# Altium schematic symbol library Diodes.SchLib: 21 symbols
Pins are listed as number, name and electrical type; pins without a type are passive.

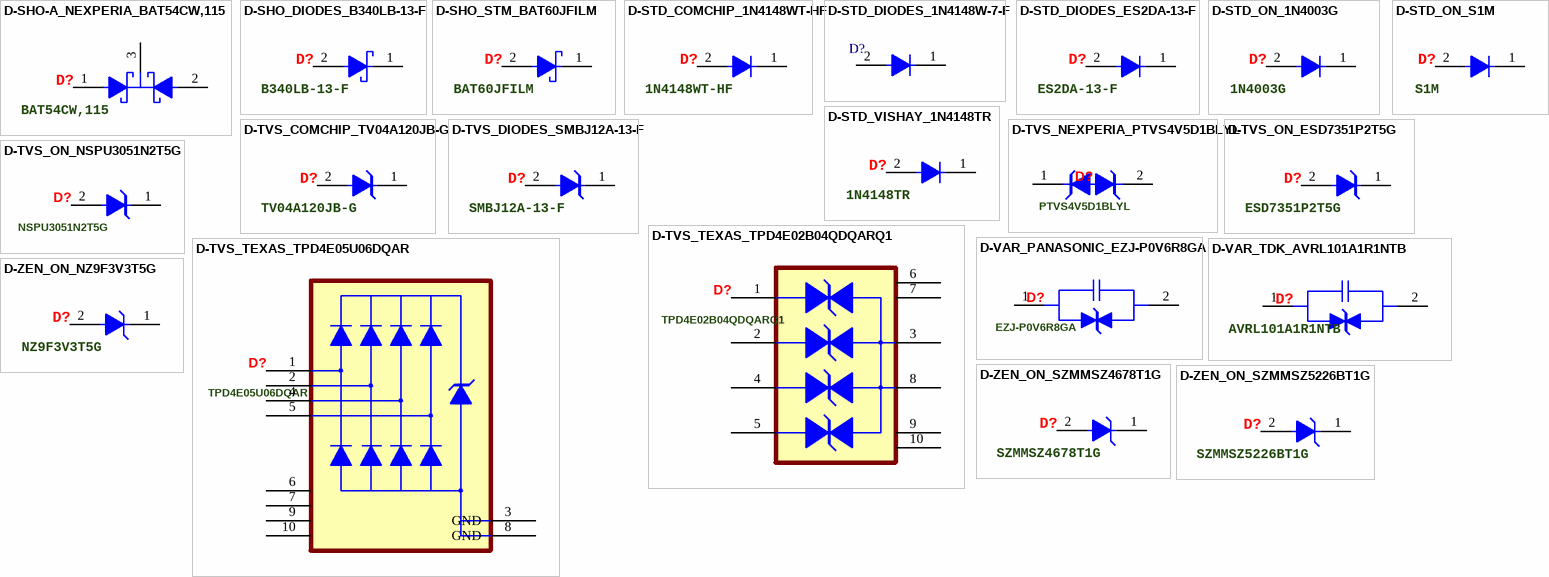
[diagram p0: symbols D-SHO-A_NEXPERIA_BAT54CW,115 to D-ZEN_ON_SZMMSZ5226BT1G]

## D-SHO-A_NEXPERIA_BAT54CW,115
designator D?, comment BAT54CW,115
Schottky Diode Array 1 Pair Common Cathode 30 V 200mA (DC) Surface Mount SC-70, SOT-323; Manufacturer: Nexperia; Forward Voltage: 800mV; Max Forward Surge Current (Ifsm): 300mA; Max Reverse Current: 2uA; Max Reverse Voltage (DC): 30V; Capacitance: 10pF; Manufacturer Part Number: BAT54CW,115; Category: Rectifier Diodes; RoHS Compliant: Yes; ComponentLink1URL: https://assets.nexperia.com/documents/data-sheet/BAT54W_SER.pdf; ComponentLink1Description: Datasheet; Forward Current: 200mA; Max Operating Temperature: 150°C; Min Operating Temperature: -55°C; Supplier 1: Digi-Key; Supplier Part Number 1: 1727-2903-1-ND; Supplier 2: Mouser; Supplier Part Number 2: 771-BAT54CW-T/R; Case/Package: SOT-323; Type: Schottky; Mounting Type: SMD/SMT
footprint SOT65P210X110-3N (SOT23, 3-Leads, Body 2.00x2.10mm, Pitch 0.65mm, IPC Medium Density)
footprint SOT65P210X110-3L (SOT23, 3-Leads, Body 2.00x2.10mm, Pitch 0.65mm, IPC High Density)
footprint SOT65P210X110-3M (SOT23, 3-Leads, Body 2.00x2.10mm, Pitch 0.65mm, IPC Low Density)
simulation model BAT54CW (Model Description)
pins: 1 A1, 2 A2, 3 K

## D-SHO_DIODES_B340LB-13-F
designator D?, comment B340LB-13-F
Schottky Diode 40 V 3A Surface Mount SMB; Manufacturer: Diodes; Max Reverse Current: 2mA; Forward Voltage: 450mV; Max Forward Surge Current (Ifsm): 70A; Capacitance: 180pF; Max Reverse Voltage (DC): 40V; Manufacturer Part Number: B340LB-13-F; Category: Rectifier Diodes; Case/Package: SMB; Min Operating Temperature: -55°C; Max Operating Temperature: 125°C; Forward Current: 3A; RoHS Compliant: Yes; ComponentLink1URL: https://www.diodes.com/assets/Datasheets/ds30240.pdf; ComponentLink1Description: Datasheet; Supplier 1: Digi-Key; Supplier Part Number 1: B340LB-FDICT-ND; Supplier 2: Mouser; Supplier Part Number 2: 621-B340LB-F; Type: Schottky; Mounting Type: SMD/SMT
footprint DIOM4336X25N (Molded Diode, 2-Leads, Body 4.31x3.62mm, IPC Medium Density)
footprint DIOM4336X25M (Molded Diode, 2-Leads, Body 4.31x3.62mm, IPC Low Density)
footprint DIOM4336X25L (Molded Diode, 2-Leads, Body 4.31x3.62mm, IPC High Density)
simulation model B340L (Model Description)
pins: 1 K, 2 A

## D-SHO_STM_BAT60JFILM
designator D?, comment BAT60JFILM
Diode 10 V 3A Surface Mount SOD-323; Manufacturer: STMicroelectronics; Forward Voltage: 580mV; Max Reverse Current: 7.5uA; Max Forward Surge Current (Ifsm): 5A; Max Reverse Voltage (DC): 10V; Type: Schottky; Manufacturer Part Number: BAT60JFILM; Category: Rectifier Diodes; Min Operating Temperature: -65°C; Max Operating Temperature: 150°C; Forward Current: 3A; Max Reverse Leakage Current: 7.5uA; RoHS Compliant: Yes; ComponentLink1URL: https://www.st.com/content/ccc/resource/technical/document/datasheet/3d/d2/27/1d/20/e3/4d/48/CD00001944.pdf/files/CD00001944.pdf/jcr:content/translations/en.CD00001944.pdf; ComponentLink1Description: Datasheet; Case/Package: SOD-323; Mounting Type: SMD/SMT; Supplier 1: Digi-Key; Supplier 2: Mouser; Supplier Part Number 1: 497-3707-1-ND; Supplier Part Number 2: 511-BAT60JFILM
footprint SOD250X117-2N (SOD, 2-Leads, Body 1.28x2.50mm, IPC Medium Density)
footprint SOD250X117-2L (SOD, 2-Leads, Body 1.28x2.50mm, IPC High Density)
footprint SOD250X117-2M (SOD, 2-Leads, Body 1.28x2.50mm, IPC Low Density)
simulation model BAT60JFILM (Model Description)
pins: 1 K, 2 A

## D-STD_COMCHIP_1N4148WT-HF
designator D?, comment 1N4148WT-HF
Switching Diode 75 V 150mA Surface Mount SOD-523; Manufacturer: Comchip; Capacitance: 2pF; Forward Voltage: 1.25V; Max Forward Surge Current (Ifsm): 2A; Max Reverse Current: 25nA; Max Reverse Voltage (DC): 100V; Min Breakdown Voltage: 75V; Type: Standard; Manufacturer Part Number: 1N4148WT-HF; Case/Package: SOD-523; Category: Rectifier Diodes; ComponentLink1Description: Datasheet; ComponentLink1URL: https://www.comchiptech.com/admin/files/product/QW-J0021%201N4148WT-HF%20RevA.pdf; Forward Current: 150mA; Max Operating Temperature: 150°C; Min Operating Temperature: -55°C; RoHS Compliant: Yes; Supplier 1: Digi-Key; Supplier Part Number 1: 641-1N4148WT-HFCT-ND; Supplier 2: Mouser; Supplier Part Number 2: 750-1N4148WT-HF; Mounting Type: SMD/SMT
footprint SODFL160X77-2N (SODFL, 2-Leads, Body 0.80x1.60mm, IPC Medium Density)
footprint SODFL160X77-2M (SODFL, 2-Leads, Body 0.80x1.60mm, IPC Low Density)
footprint SODFL160X77-2L (SODFL, 2-Leads, Body 0.80x1.60mm, IPC High Density)
simulation model 1N4148WT (Model Description)
pins: 1 K, 2 A

## D-STD_DIODES_1N4148W-7-F
designator D?, comment 1N4148W-7-F  (value not drawn)
Switching Diode 100 V 300mA Surface Mount SOD-123; Manufacturer: Diodes; Forward Current: 150mA; Max Reverse Current: 1uA; Forward Voltage: 1.25V; Max Forward Surge Current (Ifsm): 2A; Capacitance: 2pF; Max Reverse Voltage (DC): 100V; Type: Standard; Manufacturer Part Number: 1N4148W-7-F; Category: Rectifier Diodes; Min Operating Temperature: -65°C; Max Operating Temperature: 150°C; ComponentLink1URL: https://www.diodes.com/assets/Datasheets/BAV16W_1N4148W.pdf; ComponentLink1Description: Datasheet; Case/Package: SOD-123; Supplier 1: Digi-Key; Supplier 2: Mouser; Supplier Part Number 1: 1N4148W-FDICT-ND; Supplier Part Number 2: 621-1N4148W-F; RoHS Compliant: Yes; Mounting Type: SMD/SMT
footprint SODFL371X135-2N (SODFL, 2-Leads, Body 1.60x3.71mm, IPC Medium Density)
footprint SODFL371X135-2L (SODFL, 2-Leads, Body 1.60x3.71mm, IPC High Density)
footprint SODFL371X135-2M (SODFL, 2-Leads, Body 1.60x3.71mm, IPC Low Density)
simulation model 1N4148W (Model Description)
pins: 1 K, 2 A

## D-STD_DIODES_ES2DA-13-F
designator D?, comment ES2DA-13-F
Rectifier Diode 200 V 2A Surface Mount  DO-214AC (SMA); Manufacturer: Diodes; Max Reverse Current: 5uA; Forward Voltage: 920mV; Capacitance: 25pF; Max Reverse Voltage (DC): 200V; Max Forward Surge Current (Ifsm): 50A; Type: Standard; Manufacturer Part Number: ES2DA-13-F; Category: Rectifier Diodes; Case/Package: SMA; Min Operating Temperature: -55°C; Max Operating Temperature: 150°C; Forward Current: 2A; RoHS Compliant: Yes; ComponentLink1URL: https://www.diodes.com/assets/Datasheets/ds14002.pdf; ComponentLink1Description: Datasheet; Mounting Type: SMD/SMT; Supplier 1: Digi-Key; Supplier 2: Mouser; Supplier Part Number 1: ES2DA-FDICT-ND; Supplier Part Number 2: 621-ES2DA-13-F
footprint DIOM4427X27N (Molded Diode, 2-Leads, Body 4.38x2.73mm, IPC Medium Density)
footprint DIOM4427X27L (Molded Diode, 2-Leads, Body 4.38x2.73mm, IPC High Density)
footprint DIOM4427X27M (Molded Diode, 2-Leads, Body 4.38x2.73mm, IPC Low Density)
simulation model DI_ES2DA (Model Description)
pins: 1 K, 2 A

## D-STD_ON_1N4003G
designator D?, comment 1N4003G
Rectifier Diode 200 V 1A Through Hole Axial; Manufacturer: ON Semiconductor; Max Reverse Current: 10uA; Max Reverse Voltage (DC): 200V; Forward Voltage: 1.1V; Max Forward Surge Current (Ifsm): 30A; Type: Standard; Manufacturer Part Number: 1N4003G; Category: Rectifier Diodes; Case/Package: DO-41; Min Operating Temperature: -65°C; Max Operating Temperature: 175°C; Forward Current: 1A; RoHS Compliant: Yes; ComponentLink1URL: https://www.onsemi.com/pdf/datasheet/1n4001-d.pdf; ComponentLink1Description: Datasheet; Supplier 1: Digi-Key; Supplier 2: Mouser; Supplier Part Number 1: 1N4003GOS-ND; Supplier Part Number 2: 863-1N4003G; Mounting Type: Through Hole
footprint DIOPAD1405W86L465D235 (Diode, Polarized Axial Diameter; Lead Spacing 14.05mm, Lead Width 0.86mm, Body Length 4.65mm, Body Diameter 2.35mm)
simulation model 1N4003G (Model Description)
pins: 1 K, 2 A

## D-STD_ON_S1M
designator D?, comment S1M
Rectifier Diode 1000 V 1A Surface Mount DO-214AC (SMA); Manufacturer: ON Semiconductor / Fairchild; Max Reverse Current: 1uA; Forward Voltage: 1V; Max Reverse Voltage (DC): 1kV; Max Forward Surge Current (Ifsm): 30A; Capacitance: 12pF; Type: Standard; Manufacturer Part Number: S1M; Category: Rectifier Diodes; Case/Package: SMA; Min Operating Temperature: -55°C; Max Operating Temperature: 150°C; Forward Current: 1A; RoHS Compliant: No; ComponentLink1URL: https://rocelec.widen.net/view/pdf/uc5w9hbwh0/ONSM-S-A0003590234-1.pdf?t.download=true&u=5oefqw; ComponentLink1Description: Datasheet; Supplier 1: Digi-Key; Supplier Part Number 1: S1MFSCT-ND; Supplier 2: Mouser; Supplier Part Number 2: 512-S1M; Mounting Type: SMD/SMT
footprint DIOM4427X27N (Molded Diode, 2-Leads, Body 4.38x2.73mm, IPC Medium Density)
footprint DIOM4427X27L (Molded Diode, 2-Leads, Body 4.38x2.73mm, IPC High Density)
footprint DIOM4427X27M (Molded Diode, 2-Leads, Body 4.38x2.73mm, IPC Low Density)
simulation model S1M (Model Description)
pins: 1 K, 2 A

## D-STD_VISHAY_1N4148TR
designator D?, comment 1N4148TR
Switching Diode 75 V 300mA Through Hole DO-35 (DO-204AH); Manufacturer: Vishay Vitramon; Forward Voltage: 1V; Max Reverse Voltage (DC): 75V; Max Forward Surge Current (Ifsm): 2A; Max Reverse Current: 50uA; Type: Standard; Manufacturer Part Number: 1N4148TR; Category: Rectifier Diodes; Case/Package: DO-35; Min Operating Temperature: -65°C; Max Operating Temperature: 175°C; Forward Current: 300mA; ComponentLink1URL: https://www.vishay.com/docs/81857/1n4148.pdf; ComponentLink1Description: Datasheet; Mounting Type: Through Hole; RoHS Compliant: Yes; Supplier 1: Digi-Key; Supplier 2: Mouser; Supplier Part Number 1: 1N4148VSCT-ND; Supplier Part Number 2: 78-1N4148
footprint DIOPAD990W55L340D162 (Diode, Polarized Axial Diameter; Lead Spacing 9.90mm, Lead Width 0.55mm, Body Length 3.40mm, Body Diameter 1.62mm)
simulation model 1N4148TR (Model Description)
pins: 1 K, 2 A

## D-TVS_COMCHIP_TV04A120JB-G
designator D?, comment TV04A120JB-G
Tvs Diode 19.9V Clamp 20.1A Ipp Surface Mount DO-214AC (SMA); Manufacturer: Comchip; Peak Pulse Power: 400W; Reverse Standoff Voltage: 12V; Min Breakdown Voltage: 13.3V; Power Line Protection: No; Direction: Bidirectional; Manufacturer Part Number: TV04A120JB-G; Category: TVS Diodes; Case/Package: DO-214AC; Min Operating Temperature: -55°C; Max Operating Temperature: 150°C; Clamping Voltage: 19.9V; Peak Pulse Current: 20.1A; Resistor Type: Zener; RoHS Compliant: Yes; ComponentLink1URL: https://datasheet.ciiva.com/333/tv04a-gseriesrevg-333338.pdf; ComponentLink1Description: Datasheet; Supplier 1: Digi-Key; Supplier Part Number 1: 641-1235-1-ND; Supplier 2: Mouser; Supplier Part Number 2: 750-TV04A120JB-G; Type: TVS; Mounting Type: SMD/SMT
footprint DIOM4326X23N (Molded Diode, 2-Leads, Body 4.32x2.63mm, IPC Medium Density)
footprint DIOM4326X23M (Molded Diode, 2-Leads, Body 4.32x2.63mm, IPC Low Density)
footprint DIOM4326X23L (Molded Diode, 2-Leads, Body 4.32x2.63mm, IPC High Density)
simulation model TV04A120JBG (Model Description)
pins: 1 K, 2 A

## D-TVS_DIODES_SMBJ12A-13-F
designator D?, comment SMBJ12A-13-F
Tvs Diode 19.9V Clamp 30.2A Ipp Surface Mount SMB; Manufacturer: Diodes; Direction: Unidirectional; Reverse Standoff Voltage: 12V; Min Breakdown Voltage: 13.3V; Peak Pulse Power: 600W; Power Line Protection: No; Max Reverse Leakage Current: 5uA; Capacitance: 1.4nF; Manufacturer Part Number: SMBJ12A-13-F; Category: TVS Diodes; Min Operating Temperature: -55°C; Max Operating Temperature: 150°C; Clamping Voltage: 19.9V; Peak Pulse Current: 30.2A; Resistor Type: Zener; RoHS Compliant: Yes; ComponentLink1URL: https://www.diodes.com/assets/Datasheets/ds19002.pdf; ComponentLink1Description: Datasheet; Case/Package: SMB; Supplier 1: Digi-Key; Supplier Part Number 1: SMBJ12A-FDICT-ND; Supplier 2: Mouser; Supplier Part Number 2: 621-SMBJ12A-13-F; Type: TVS; Mounting Type: SMD/SMT
footprint DIOM4336X25N (Molded Diode, 2-Leads, Body 4.31x3.62mm, IPC Medium Density)
footprint DIOM4336X25M (Molded Diode, 2-Leads, Body 4.31x3.62mm, IPC Low Density)
footprint DIOM4336X25L (Molded Diode, 2-Leads, Body 4.31x3.62mm, IPC High Density)
simulation model SMBJ12A13F (Model Description)
pins: 1 K, 2 A

## D-TVS_NEXPERIA_PTVS4V5D1BLYL
designator D?, comment PTVS4V5D1BLYL
Tvs Diode 13.2V Clamp 34A (8/20µs) Ipp Surface Mount DFN1006-2; Manufacturer: Nexperia; Direction: Bidirectional; Bidirectional Channels: 1; Reverse Standoff Voltage: 4.5V; Min Breakdown Voltage: 4.7V; Power Line Protection: No; Manufacturer Part Number: PTVS4V5D1BLYL; Category: TVS Diodes; ComponentLink1URL: https://assets.nexperia.com/documents/data-sheet/PTVS4V5D1BL.pdf; ComponentLink1Description: Datasheet; Type: TVS; Min Operating Temperature: -55°C; Max Operating Temperature: 150°C; Clamping Voltage: 13.2V; Peak Pulse Current: 34A; RoHS Compliant: Yes; Supplier 1: Digi-Key; Supplier Part Number 1: 1727-7415-1-ND; Supplier 2: Mouser; Supplier Part Number 2: 771-PTVS4V5D1BLYL; Case/Package: DFN1006-2; Resistor Type: Zener; Mounting Type: SMD/SMT
footprint DFN65P58X98X50-2N (DFN, 2-Leads, Body 0.58x0.98mm, Pitch 0.65mm, IPC Medium Density)
footprint DFN65P58X98X50-2M (DFN, 2-Leads, Body 0.59x0.99mm, Pitch 0.65mm, IPC Low Density)
footprint DFN65P58X98X50-2L (DFN, 2-Leads, Body 0.59x0.99mm, Pitch 0.65mm, IPC High Density)
simulation model PTVS4V5D1B (Model Description)
pins: 1 K1, 2 K2

## D-TVS_ON_ESD7351P2T5G
designator D?, comment ESD7351P2T5G
Tvs Diode 10V Clamp 3A Ipp Surface Mount SOD-923; Manufacturer: ON Semiconductor; Reverse Standoff Voltage: 3.3V; Min Breakdown Voltage: 5V; Power Line Protection: No; Direction: Unidirectional; Max Reverse Leakage Current: 50nA; Manufacturer Part Number: ESD7351P2T5G; Category: TVS Diodes; Min Operating Temperature: -55°C; Max Operating Temperature: 150°C; Resistor Type: Zener; RoHS Compliant: Yes; ComponentLink1URL: https://www.onsemi.com/pdf/datasheet/esd7351-d.pdf; ComponentLink1Description: Datasheet; Case/Package: SOD-923; Clamping Voltage: 10V; Type: TVS; Mounting Type: SMD/SMT; Supplier 1: Digi-Key; Supplier 2: Mouser; Supplier Part Number 1: 488-SZESD7351P2T5GCT-ND; Supplier Part Number 2: 863-SZESD7351P2T5G
footprint SODFL100X40-2N (SODFL, 2-Leads, Body 0.60x1.00mm, IPC Medium Density)
footprint SODFL100X40-2M (SODFL, 2-Leads, Body 0.60x1.00mm, IPC Low Density)
footprint SODFL100X40-2L (SODFL, 2-Leads, Body 0.60x1.00mm, IPC High Density)
simulation model ESD7351P2T5G (Model Description)
pins: 1 K, 2 A

## D-TVS_ON_NSPU3051N2T5G
designator D?, comment NSPU3051N2T5G
Tvs Diode 9.5V Clamp 36A (8/20µs) Ipp Surface Mount 2-X2DFN (1x0.6); Manufacturer: ON Semiconductor; Reverse Standoff Voltage: 5.5V; Min Breakdown Voltage: 5.7V; Power Line Protection: No; Direction: Unidirectional; Manufacturer Part Number: NSPU3051N2T5G; Category: TVS Diodes; Min Operating Temperature: -65°C; Max Operating Temperature: 150°C; Resistor Type: Zener; Clamping Voltage: 9.5V; Peak Pulse Current: 36A; RoHS Compliant: Yes; ComponentLink1URL: https://www.onsemi.com/pdf/datasheet/nspu3051-d.pdf; ComponentLink1Description: Datasheet; Supplier 1: Digi-Key; Supplier Part Number 1: NSPU3051N2T5GOSCT-ND; Supplier 2: Mouser; Supplier Part Number 2: 863-NSPU3051N2T5G; Case/Package: 2-X2DFN (1x0.6); Type: TVS; Mounting Type: SMD/SMT
footprint DFN65P60X100X40-2N (DFN, 2-Leads, Body 0.60x1.00mm, Pitch 0.65mm, IPC Medium Density)
footprint DFN65P60X100X40-2L (DFN, 2-Leads, Body 0.60x1.00mm, Pitch 0.65mm, IPC High Density)
footprint DFN65P60X100X40-2M (DFN, 2-Leads, Body 0.60x1.00mm, Pitch 0.65mm, IPC Low Density)
simulation model NSPU3051N2T5G (Model Description)
pins: 1 K, 2 A

## D-TVS_TEXAS_TPD4E02B04QDQARQ1
designator D?, comment TPD4E02B04QDQARQ1
Tvs Diode 8.8V Clamp 2A (8/20µs) Ipp Surface Mount 10-USON (2.5x1); Manufacturer: Texas Instruments; Interface: LVDS,USB,Ethernet,HDMI; Number of Channels: 4; Reverse Standoff Voltage: 3.6V; Min Breakdown Voltage: 5.5V; Peak Pulse Power: 17W; Power Line Protection: No; Direction: Bidirectional; Manufacturer Part Number: TPD4E02B04QDQARQ1; Category: TVS Diodes; Min Operating Temperature: -40°C; Max Operating Temperature: 125°C; Type: TVS; Clamping Voltage: 8.8V; Peak Pulse Current: 2A; ComponentLink1URL: https://www.ti.com/general/docs/suppproductinfo.tsp?distId=10&gotoUrl=https%3A%2F%2Fwww.ti.com%2Flit%2Fgpn%2Ftpd4e02b04-q1; ComponentLink1Description: Datasheet; RoHS Compliant: Yes; Supplier 1: Digi-Key; Supplier Part Number 1: 296-48995-1-ND; Supplier 2: Mouser; Supplier Part Number 2: 595-D4E02B04QDQARQ1; Case/Package: 10-USON (2.5x1); Mounting Type: SMD/SMT
footprint SON50P250X100X55-10N (SON, 10-Leads, Body 2.50x1.00mm, Pitch 0.50mm, IPC Medium Density)
footprint SON50P250X100X55-10L (SON, 10-Leads, Body 2.50x1.00mm, Pitch 0.50mm, IPC High Density)
footprint SON50P250X100X55-10M (SON, 10-Leads, Body 2.50x1.00mm, Pitch 0.50mm, IPC Low Density)
simulation model TPD4E02B04QDQARQ1 (Model Description)
pins: 1 IO1 "ESD Protected Channel", 2 IO2 "ESD Protected Channel", 3 GND (power) "Ground", 4 IO3 "ESD Protected Channel", 5 IO4 "ESD Protected Channel", 6 NC "Not connected", 7 NC "Not connected", 8 GND (power) "Ground", 9 NC "Not connected", 10 NC "Not connected"

## D-TVS_TEXAS_TPD4E05U06DQAR
designator D?, comment TPD4E05U06DQAR
Tvs Diode 14V Clamp 2.5A (8/20µs) Ipp Surface Mount 10-USON (2.5x1); Manufacturer: Texas Instruments; Direction: Unidirectional; Reverse Standoff Voltage: 5.5V; Min Breakdown Voltage: 6V; Peak Pulse Power: 40W; Power Line Protection: Yes; Number of Channels: 4; Interface: LVDS,USB,Ethernet,HDMI,PCIe,SATA; Manufacturer Part Number: TPD4E05U06DQAR; Category: TVS Diodes; Min Operating Temperature: -40°C; Max Operating Temperature: 125°C; Clamping Voltage: 14V; Peak Pulse Current: 2.5A; RoHS Compliant: Yes; ComponentLink1URL: https://www.ti.com/lit/ds/symlink/tpd4e05u06.pdf; ComponentLink1Description: Datasheet; Type: TVS; Case/Package: 10-USON (2.5x1); Mounting Type: SMD/SMT; Supplier 1: Digi-Key; Supplier 2: Mouser; Supplier Part Number 1: 296-35765-1-ND; Supplier Part Number 2: 595-TPD4E05U06DQAR
footprint SON50P250X100X55-10N (SON, 10-Leads, Body 2.50x1.00mm, Pitch 0.50mm, IPC Medium Density)
footprint SON50P250X100X55-10L (SON, 10-Leads, Body 2.50x1.00mm, Pitch 0.50mm, IPC High Density)
footprint SON50P250X100X55-10M (SON, 10-Leads, Body 2.50x1.00mm, Pitch 0.50mm, IPC Low Density)
simulation model TPD4E05U06DQAR (Model Description)
pins: 1 D1+ "ESD Protected Channel", 2 D1- "ESD Protected Channel", 3 GND (power) "Ground", 4 D2+ "ESD Protected Channel", 5 D2- "ESD Protected Channel", 6 NC "Not connected", 7 NC "Not connected", 8 GND (power) "Ground", 9 NC "Not connected", 10 NC "Not connected"

## D-VAR_PANASONIC_EZJ-P0V6R8GA
designator D?, comment EZJ-P0V6R8GA
Varistor 6.8 V 3A 1 Circuit Surface Mount, MLCV 0402 (1005 Metric); Manufacturer: Panasonic; Voltage Max (DC): 3.7V; Varistor Voltage (Min): 6.12V; Varistor Voltage (Typ): 6.8V; Varistor Voltage (Max): 7.48V; Capacitance: 100pF; Manufacturer Part Number: EZJ-P0V6R8GA; Category: Varistors; ComponentLink1Description: Datasheet; ComponentLink1URL: https://api.pim.na.industrial.panasonic.com/file_stream/main/fileversion/1695; Peak Current: 3A; Min Operating Temperature: -40°C; Max Operating Temperature: 85°C; RoHS Compliant: Yes; Supplier 1: Digi-Key; Supplier Part Number 1: 10-EZJ-P0V6R8GACT-ND; Supplier 2: Mouser; Supplier Part Number 2: 667-EZJ-P0V6R8GA; Case/Package: 0402; Type: Varistor; Mounting Type: SMD/SMT
footprint CAPC1005X55N (Chip Capacitor, EIA 0402, Metric 1005, Body 1.00x0.50mm, IPC Medium Density)
footprint CAPC1005X55L (Chip Capacitor, EIA 0402, Metric 1005, Body 1.00x0.50mm, IPC High Density)
footprint CAPC1005X55M (Chip Capacitor, EIA 0402, Metric 1005, Body 1.00x0.50mm, IPC Low Density)
simulation model EZJ_P0V6R8GA (Model Description)
pins: 1, 2

## D-VAR_TDK_AVRL101A1R1NTB
designator D?, comment AVRL101A1R1NTB
Varistor 39 V 1 Circuit Surface Mount, MLCV 0402 (1005 Metric); Manufacturer: TDK; Capacitance: 1.1pF; Varistor Voltage (Typ): 39V; Voltage Max (DC): 10V; Manufacturer Part Number: AVRL101A1R1NTB; Category: Varistors; Case/Package: 0402; Min Operating Temperature: -40°C; Max Operating Temperature: 125°C; RoHS Compliant: Yes; ComponentLink1URL: https://product.tdk.com/en/system/files?file=dam/doc/product/protection/voltage/varistor_ctvs/catalog/vpd_varistors_avr_en.pdf; ComponentLink1Description: Datasheet; Type: Varistor; Supplier 1: Digi-Key; Supplier Part Number 1: 445-2561-1-ND; Supplier 2: Mouser; Supplier Part Number 2: 810-AVRL101A1R1NTB; Mounting Type: SMD/SMT
footprint CAPC1005X55N (Chip Capacitor, EIA 0402, Metric 1005, Body 1.00x0.50mm, IPC Medium Density)
footprint CAPC1005X55L (Chip Capacitor, EIA 0402, Metric 1005, Body 1.00x0.50mm, IPC High Density)
footprint CAPC1005X55M (Chip Capacitor, EIA 0402, Metric 1005, Body 1.00x0.50mm, IPC Low Density)
simulation model AVRL101E1R1NTB (Model Description)
pins: 1, 2

## D-ZEN_ON_NZ9F3V3T5G
designator D?, comment NZ9F3V3T5G
Zener Diode 3.3 V 250 mW ±5% Surface Mount SOD-923; Manufacturer: ON Semiconductor; Max Reverse Leakage Current: 10uA; Peak Pulse Power: 250mW; Manufacturer Part Number: NZ9F3V3T5G; Category: Zener Diodes; Case/Package: SOD-923; Min Operating Temperature: -65°C; Max Operating Temperature: 150°C; RoHS Compliant: Yes; ComponentLink1URL: https://www.onsemi.com/pdf/datasheet/nz9f2v4-d.pdf; ComponentLink1Description: Datasheet; Supplier 1: Digi-Key; Supplier Part Number 1: NZ9F3V3T5GOSCT-ND; Supplier 2: Mouser; Supplier Part Number 2: 863-NZ9F3V3T5G; Type: Zener; Mounting Type: SMD/SMT
footprint SODFL100X40-2N (SODFL, 2-Leads, Body 0.60x1.00mm, IPC Medium Density)
footprint SODFL100X40-2M (SODFL, 2-Leads, Body 0.60x1.00mm, IPC Low Density)
footprint SODFL100X40-2L (SODFL, 2-Leads, Body 0.60x1.00mm, IPC High Density)
simulation model NZ9F3V3T5G (Model Description)
pins: 1 K, 2 A

## D-ZEN_ON_SZMMSZ4678T1G
designator D?, comment SZMMSZ4678T1G
Zener Diode 1.8 V 500 mW ±5% Surface Mount SOD-123; Manufacturer: ON Semiconductor; Max Reverse Leakage Current: 7.5uA; Peak Pulse Power: 500mW; Manufacturer Part Number: SZMMSZ4678T1G; Category: Zener Diodes; Case/Package: SOD-123; Min Operating Temperature: -55°C; Max Operating Temperature: 150°C; RoHS Compliant: Yes; ComponentLink1URL: https://www.onsemi.com/pdf/datasheet/mmsz4678t1-d.pdf; ComponentLink1Description: Datasheet; Type: Zener; Mounting Type: SMD/SMT; Supplier 1: Digi-Key; Supplier 2: Mouser; Supplier Part Number 1: SZMMSZ4678T1GOSCT-ND; Supplier Part Number 2: 863-SZMMSZ4678T1G
footprint SODFL371X135-2N (SODFL, 2-Leads, Body 1.60x3.71mm, IPC Medium Density)
footprint SODFL371X135-2M (SODFL, 2-Leads, Body 1.60x3.71mm, IPC Low Density)
footprint SODFL371X135-2L (SODFL, 2-Leads, Body 1.60x3.71mm, IPC High Density)
simulation model SZMMSZ4678T1G (Model Description)
pins: 1 K, 2 A

## D-ZEN_ON_SZMMSZ5226BT1G
designator D?, comment SZMMSZ5226BT1G
Zener Diode 3.3 V 500 mW ±5% Surface Mount SOD-123; Manufacturer: ON Semiconductor; Max Reverse Leakage Current: 25uA; Peak Pulse Power: 500mW; Manufacturer Part Number: SZMMSZ5226BT1G; Category: Zener Diodes; Min Operating Temperature: -55°C; Max Operating Temperature: 150°C; ComponentLink1URL: https://www.onsemi.com/pdf/datasheet/mmsz5221bt1-d.pdf; ComponentLink1Description: Datasheet; RoHS Compliant: Yes; Case/Package: SOD-123; Supplier 1: Digi-Key; Supplier Part Number 1: SZMMSZ5226BT1GOSCT-ND; Supplier 2: Mouser; Supplier Part Number 2: 863-SZMMSZ5226BT1G; Type: Zener; Mounting Type: SMD/SMT
footprint SODFL371X135-2L (SODFL, 2-Leads, Body 1.60x3.71mm, IPC High Density)
footprint SODFL371X135-2N (SODFL, 2-Leads, Body 1.60x3.71mm, IPC Medium Density)
footprint SODFL371X135-2M (SODFL, 2-Leads, Body 1.60x3.71mm, IPC Low Density)
simulation model SZMMSZ5226BT1G (Model Description)
pins: 1 K, 2 A